# Altium footprint library TL3336.PcbLib: 1 footprints
Each footprint in its own frame and in the unit in brackets; x right, y up, seen from the top. Pads: shape width x height; smd on the part's side, far side on the other; paste and mask are expansions set on the pad; w line width, h text height; cw(c..) or ccw(c..) is an arc to the next point about the centre after c.
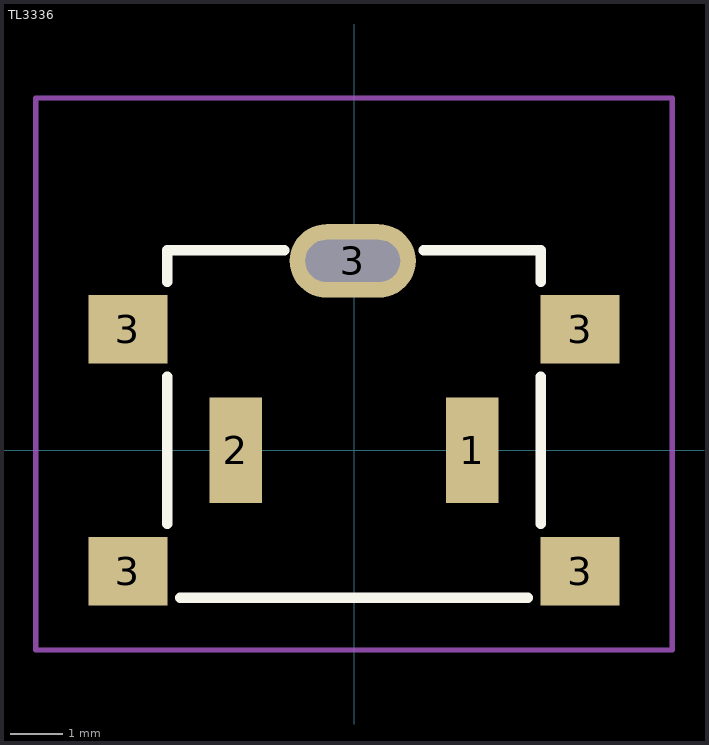
[diagram p0: the footprint, top view; thin cyan lines are the x and y axes]

## TL3336 [mm]
pads (7):
  rect 1x2 smd: 1(2.25,0) 2(-2.25,0)
  rect 1.5x1.3 smd: 3(-4.3,-2.3) 3(-4.3,2.3) 3(4.3,-2.3) 3(4.3,2.3)
  oval 2.4x1.4 hole 0.8 slot 1.8 at 0 deg: 3(-0.025,3.6)
Top Overlay:
  lines w0.2: -3.55,-1.4 -3.55,1.4 ; -3.55,3.2 -3.55,3.8 -1.325,3.8 ; -3.3,-2.8 3.3,-2.8 ; 1.325,3.8 3.55,3.8 3.55,3.2 ; 3.55,-1.4 3.55,1.4
Top Courtyard:
  lines w0.1: -6.05,-3.8 -3.3,-3.8 6.05,-3.8 6.05,6.7 -6.05,6.7 -6.05,-3.8
3D body "TL3336AFxxxQ.stp": height 7.1, standoff -1, extent -4.75,-2.805 4.75,5.695